# Altium schematic symbol library WR_TBL_2X4.SchLib: 1 symbol
Pins are listed as number, name and electrical type; pins without a type are passive.

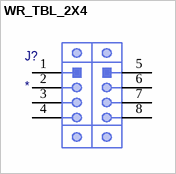
[diagram p0: symbol WR_TBL_2X4]

## WR_TBL_2X4
designator J?
pins: 1, 2, 3, 4, 5 57, 6, 7, 8